# Altium schematic symbol library LimeMicroAltiumLib.SchLib: 659 symbols (part 17 of 22)
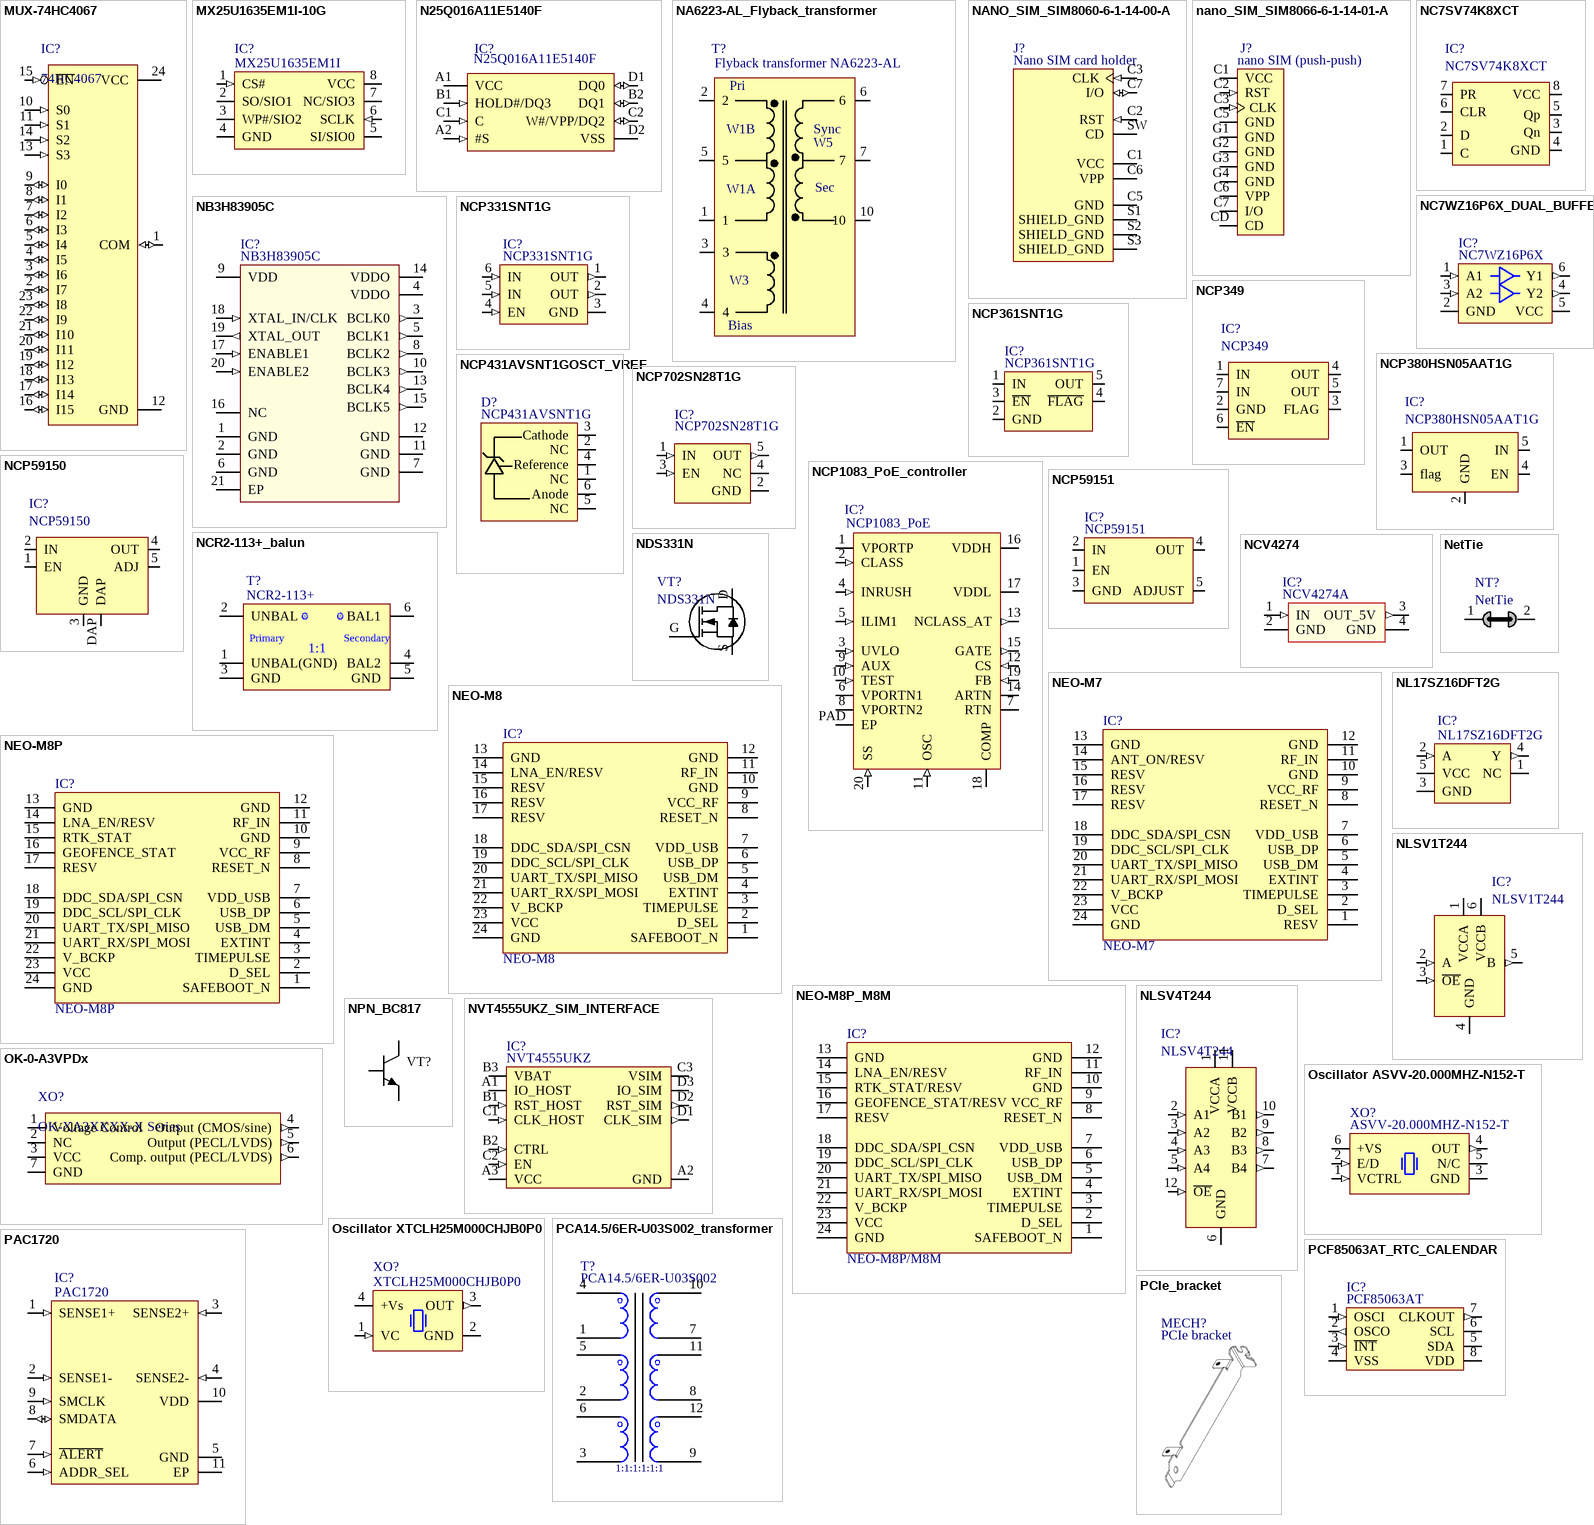
[diagram p94: symbols MUX-74HC4067 to PCIe_bracket]

## NCR2-113+_balun
designator T?, comment NCR2-113+
Manufacturer: Mini-Circuits; Part Description: RF Balun 3.5GHz ~ 11GHz 1:2 6-SMD, No Lead; Supplier 1: Digikey; Supplier Part Number 1: 3157-NCR2-113+CT-ND; Manufacturer Part Number 1: NCR2-113+; Stock 1: 9022; Pricing 1: 1=9,14, 20=8,79, 50=8,16, 100=7,52, 200=7,0375 (USD); ComponentLink1URL: https://datasheet.octopart.com/NCR2-113%2B-Mini-Circuits-datasheet-138896883.pdf?src-supplier=Upverter; ComponentLink1Description: https://datasheet.octopart.com/NCR2-113%2B-Mini-Circuits-datasheet-138896883.pdf?src-supplier=Upverter
footprint NCR2-113+_balun
pins: 1 UNBAL(GND), 2 UNBAL, 3 GND, 4 BAL2, 5 GND, 6 BAL1
text: Primary; Secondary; 1:1

## NCV4274
designator IC?, comment NCV4274A
Manufacturer Part Number 1: NCV4274ADT50RKG; Manufacturer: ON Semiconductor; Part Description: Linear Voltage Regulator IC Positive Fixed 1 Output 5V 400mA DPAK-3; Voltage - Output: 5V; Voltage - Dropout (Typical): 0.25V @ 250mA; Current - Output: 400mA; Regulator Topology: Positive Fixed; Voltage - Input: 5.5 V ~ 40 V; Number of Regulators: 1; Supplier 1: Digi-Key; RoHS: RoHS Compliant; Supplier Device Package: DPAK-3; Package / Case: TO-252-3, DPak (2 Leads + Tab), SC-63; Mounting Type: Surface Mount; Category: Integrated Circuits (ICs); Current - Limit (Min): 400mA; Operating Temperature: -40°C ~ 150°C; Packaging: Cut Tape (CT); Supplier Part Number 1: NCV4274ADT50RKGOSCT-ND
footprint D2PAK-3 (D-PAK/TO-263-3; 3 Leads (1 Cropped); Body 14.7 (inc. leads) x 10.2 mm (LxW max))
pins: 1 IN (in), 2 GND, 3 OUT_5V (out), 4 GND

## NDS331N
designator VT?
Gate Charge (Qg) @ Vgs: 5nC @ 4.5V; Power - Max: 460mW; Current - Continuous Drain (Id) @ 25°C: 1.3A (Ta); Input Capacitance (Ciss) @ Vds: 162pF @ 10V; FET Type: MOSFET N-Channel, Metal Oxide; Drain to Source Voltage (Vdss): 20V; FET Feature: Logic Level Gate; Supplier Device Package: 3-SSOT; Category: Discrete Semiconductor Products; Mounting Type: Surface Mount; Package / Case: TO-236-3, SC-59, SOT-23-3; Supplier: Digi-Key; Supplier Part Number 1: NDS331NCT-ND
footprint SOT23-3 (SOT23, 3 pin)
pins: D, G, S

## NEO-M7
designator IC?
GNSS engine for GPS/QZSS, GLONASS; Manufacturer: U-blox; DatasheetVersion: R07 11-Nov-2014; PackageDescription: NEO-7 series 12.2 x 16 x 2.4 mm; ComponentLink1URL: https://www.u-blox.com/en/product/neo-7-series; ComponentLink2Description: Datasheet; ComponentLink1Description: https://www.u-blox.com/en/product/neo-7-series
pins: 1 RESV, 2 D_SEL, 3 TIMEPULSE, 4 EXTINT, 5 USB_DM, 6 USB_DP, 7 VDD_USB, 8 RESET_N, 9 VCC_RF, 10 GND, 11 RF_IN, 12 GND, 13 GND, 14 ANT_ON/RESV, 15 RESV, 16 RESV, 17 RESV, 18 DDC_SDA/SPI_CSN, 19 DDC_SCL/SPI_CLK, 20 UART_TX/SPI_MISO, 21 UART_RX/SPI_MOSI, 22 V_BCKP, 23 VCC, 24 GND

## NEO-M8
designator IC?
GNSS engine for GPS/QZSS, GLONASS; Manufacturer: U-blox; DatasheetVersion: R07 11-Nov-2014; PackageDescription: NEO-7 series 12.2 x 16 x 2.4 mm; ComponentLink1URL: https://www.u-blox.com/en/product/neo-7-series; ComponentLink2Description: Datasheet; ComponentLink1Description: https://www.u-blox.com/en/product/neo-7-series
pins: 1 SAFEBOOT_N, 2 D_SEL, 3 TIMEPULSE, 4 EXTINT, 5 USB_DM, 6 USB_DP, 7 VDD_USB, 8 RESET_N, 9 VCC_RF, 10 GND, 11 RF_IN, 12 GND, 13 GND, 14 LNA_EN/RESV, 15 RESV, 16 RESV, 17 RESV, 18 DDC_SDA/SPI_CSN, 19 DDC_SCL/SPI_CLK, 20 UART_TX/SPI_MISO, 21 UART_RX/SPI_MOSI, 22 V_BCKP, 23 VCC, 24 GND

## NEO-M8P
designator IC?
GNSS engine for GPS/QZSS, GLONASS; Manufacturer: U-blox; DatasheetVersion: R07 11-Nov-2014; PackageDescription: NEO-7 series 12.2 x 16 x 2.4 mm; ComponentLink1URL: https://www.u-blox.com/en/product/neo-7-series; ComponentLink2Description: Datasheet; ComponentLink1Description: https://www.u-blox.com/en/product/neo-7-series
pins: 1 SAFEBOOT_N, 2 D_SEL, 3 TIMEPULSE, 4 EXTINT, 5 USB_DM, 6 USB_DP, 7 VDD_USB, 8 RESET_N, 9 VCC_RF, 10 GND, 11 RF_IN, 12 GND, 13 GND, 14 LNA_EN/RESV, 15 RTK_STAT, 16 GEOFENCE_STAT, 17 RESV, 18 DDC_SDA/SPI_CSN, 19 DDC_SCL/SPI_CLK, 20 UART_TX/SPI_MISO, 21 UART_RX/SPI_MOSI, 22 V_BCKP, 23 VCC, 24 GND

## NEO-M8P_M8M
designator IC?, comment NEO-M8P/M8M
GNSS engine for GPS/QZSS, GLONASS; Manufacturer: U-blox; DatasheetVersion: R07 11-Nov-2014; PackageDescription: NEO-7 series 12.2 x 16 x 2.4 mm; ComponentLink1URL: https://www.u-blox.com/en/product/neo-7-series; ComponentLink2Description: Datasheet; ComponentLink1Description: https://www.u-blox.com/en/product/neo-7-series
pins: 1 SAFEBOOT_N, 2 D_SEL, 3 TIMEPULSE, 4 EXTINT, 5 USB_DM, 6 USB_DP, 7 VDD_USB, 8 RESET_N, 9 VCC_RF, 10 GND, 11 RF_IN, 12 GND, 13 GND, 14 LNA_EN/RESV, 15 RTK_STAT/RESV, 16 GEOFENCE_STAT/RESV, 17 RESV, 18 DDC_SDA/SPI_CSN, 19 DDC_SCL/SPI_CLK, 20 UART_TX/SPI_MISO, 21 UART_RX/SPI_MOSI, 22 V_BCKP, 23 VCC, 24 GND

## NetTie
designator NT?  (net tie, no BOM)
pins: 1, 2

## NL17SZ16DFT2G
designator IC?
Manufacturer: ON Semiconductor; Part Description: Buffer, Non-Inverting 1 Element 1 Bit per Element Push-Pull Output SC-88A (SC-70-5/SOT-353); Logic Type: Buffer, Non-Inverting; Number of Bits per Element: 1; Output Type: Push-Pull; Current - Output High, Low: 32mA, 32mA; Voltage - Supply: 1.65 V ~ 5.5 V; Supplier 1: Digi-Key; Manufacturer Part Number 1: NL17SZ16DFT2G; RoHS: RoHS Compliant; Category: Integrated Circuits (ICs); Stock 1: 2190; Pricing 1: 1=0.34, 10=0.28, 100=0.1485, 500=0.09772, 1000=0.06645 (USD); Packaging: Cut Tape (CT); Part Status: Active; Input Type: -; Operating Temperature: -55°C ~ 125°C (TA); Mounting Type: Surface Mount; Package / Case: 5-TSSOP, SC-70-5, SOT-353; Supplier Device Package: SC-88A (SC-70-5/SOT-353); Base Part Number: 17SZ16; ComponentLink1URL: http://www.onsemi.com/pub/Collateral/NL17SZ16-D.PDF; ComponentLink1Description: http://www.onsemi.com/pub/Collateral/NL17SZ16-D.PDF; Supplier Part Number 1: NL17SZ16DFT2GOSCT-ND
footprint NL17SZ16_SOT23-5
pins: 1 NC, 2 A (in), 3 GND, 4 Y (out), 5 VCC (power)

## NLSV1T244
designator IC?
pins: 1 VCCA (power), 2 A (in), 3 ~{OE} (in), 4 GND (power), 5 B (out), 6 VCCB (power)

## NLSV4T244
designator IC?
Manufacturer: ON Semiconductor; Voltage - Supply: 0.9 V ~ 4.5 V; Logic Function: Translator, Unidirectional, 3-State; Supplier 1: Digi-Key; Category: Integrated Circuits (ICs); Package / Case: 12-UFQFN; Supplier Device Package: 12-UQFN (1.7x2); Supplier Part Number 1: NLSV4T244MUTAGOSDKR-ND
footprint NLSV4T244 (PQFN, 12-Leads, Body 1,70x2,00mm, Pitch 0,40mm, IPC Medium Density)
pins: 1 VCCA (power), 2 A1 (in), 3 A2 (in), 4 A3 (in), 5 A4 (in), 6 GND (power), 7 B4 (out), 8 B3 (out), 9 B2 (out), 10 B1 (out), 11 VCCB (power), 12 ~{OE} (in)

## NPN_BC817
designator VT?  (value not drawn)
Transistor SOT-23; Manufacturer Part Number 1: BC817; Manufacturer: MULTICOMP; Transistor Polarity: NPN; Collector Emitter Voltage V(br)ceo: 45; Transition Frequency ft: 170; Power Dissipation Pd: 300; DC Collector Current: 500; DC Current Gain hFE: 100; No. of Pins: 3; SVHC: No SVHC (16-Jun-2014); DC Current Gain Hfe Max: 600; Supplier 1: Farnell; RoHS: YES; Transistor Case Style: SOT-23; Operating Temperature Max: 150; MSL: -; Operating Temperature Min: -65; Operating Temperature Range: -65°C to +150; Supplier Part Number 1: 1798076
footprint SOT23-3_v2 (SOT23, 3 pin)
pins: 1 B, 2 E, 3 C

## NVT4555UKZ_SIM_INTERFACE
designator IC?, comment NVT4555UKZ
Part Description: SIM Card Interface 12-WLCSP (1.20x1.60); Manufacturer: NXP Semiconductors; Operating Supply Current: 5uA; Max Supply Voltage: 3.6V; Supplier 1: Digi-Key; Supplier Part Number 1: 568-11436-1-ND; Manufacturer Part Number 1: NVT4555UKZ; Stock 1: 2519; Pricing 1: 1=1,59000, 10=1,41900, 25=1,34720, 100=1,10660, 250=1,03440, 500=0,91410, 1000=0,76061 (USD); RoHS: Yes; Mount: Surface Mount; Number of Pins: 12; Weight: 0.002328oz; Min Operating Temperature: -40°C; Max Operating Temperature: 85°C; Packaging: Tape and Reel; Package Quantity: 3000; RoHS Compliant: Yes; ComponentLink1URL: http://www.mouser.com/ds/2/302/NVT4555-527699.pdf?src-supplier=Mouser; ComponentLink1Description: http://www.mouser.com/ds/2/302/NVT4555-527699.pdf?src-supplier=Mouser
footprint NVT4555UKZ_SIM_INTERFACE_WLCSP12 (Footprint not found)
pins: A1 IO_HOST (io), A2 GND, A3 VCC (power), B1 RST_HOST (in), B2 CTRL (in), B3 VBAT (power), C1 CLK_HOST (in), C2 EN (in), C3 VSIM (power), D1 CLK_SIM (out), D2 RST_SIM (out), D3 IO_SIM (io)

## OK-0-A3VPDx
designator XO?, comment OK-XA3XXXX-X Series
Manufacturer: NEL Frequency Control; Part Description: Up to 1.0 GHz  Ultra High Frequency Range Excellent Temperature Stability  CMOS PECL/LVPECL LVDS Sine  3.3V 5V; Supplier Part Number 1: *; Supplier 1: NEL Frequency Control
footprint OK-0-A3VPDx
pins: 1 Voltage Control, 2 NC, 3 VCC (power), 4 Output (CMOS/sine) (out), 5 Output (PECL/LVDS) (out), 6 Comp. output (PECL/LVDS) (out), 7 GND

## Oscillator ASVV-20.000MHZ-N152-T
designator XO?, comment ASVV-20.000MHZ-N152-T
Manufacturer: Abracon; Part Description: XTAL OSC VCXO 20.0000MHZ CMOS; Frequency: 20MHz; Load Capacitance: 30pF; Operating Supply Voltage: 3.3V; Max Supply Voltage: 3.465V; Min Supply Voltage: 3.135V; Max Supply Current: 15mA; Frequency Stability: 50ppm; Max Duty Cycle: 60%; Supplier 1: Digi-Key; Supplier Part Number 1: 535-9344-1-ND; Manufacturer Part Number 1: ASVV-20.000MHZ-N152-T; Stock 1: 1109; Pricing 1: 1=4,74000, 10=4,49300, 50=4,24320, 100=3,99360, 500=3,86880 (USD); RoHS: Yes; Mount: Surface Mount; Case/Package: SMD/SMT; Number of Pins: 6; Min Operating Temperature: 0°C; Max Operating Temperature: 70°C; Packaging: Tape and Reel; Package Quantity: 1000; Termination: SMD/SMT; Series: ASVV; Length: 0.276inch; Width: 0.197inch; Height: 0.079inch; Depth: 5mm; Radiation Hardening: No; Lead Free: Lead Free; RoHS Compliant: No; ComponentLink1URL: https://datasheet.ciiva.com/867/asvv-867044.pdf?src-supplier=Digi-Key; ComponentLink1Description: https://datasheet.ciiva.com/867/asvv-867044.pdf?src-supplier=Digi-Key; ComponentLink2URL: https://datasheet.ciiva.com/867/asvv-867045.pdf?src-supplier=Digi-Key; ComponentLink2Description: https://datasheet.ciiva.com/867/asvv-867045.pdf?src-supplier=Digi-Key; ComponentLink3URL: https://datasheet.ciiva.com/867/asvv-867046.pdf?src-supplier=Digi-Key; ComponentLink3Description: https://datasheet.ciiva.com/867/asvv-867046.pdf?src-supplier=Digi-Key
footprint XO_ASVV-20.000MHZ-N152-T
pins: 1 VCTRL (in), 2 E/D (in), 3 GND, 4 OUT (out), 5 N/C, 6 +VS (power)

## Oscillator XTCLH25M000CHJB0P0
designator XO?, comment XTCLH25M000CHJB0P0
Manufacturer: Murata; Part Description: XTAL OSC VCTCXO 25.0000MHZ CMOS; Supplier 1: Digi-Key; Supplier Part Number 1: 490-XTCLH25M000CHJB0P0CT-ND; Manufacturer Part Number 1: XTCLH25M000CHJB0P0; Stock 1: 1960; Pricing 1: 1=10,11000, 10=9,48000, 50=9,16400, 100=8,84800, 500=8,53200, 1000=7,90000 (USD)
footprint XO_XTCLH25M000CHJB0P0 (SMD Oscillator, Corner Convave, 4 pins, 5x3.2mm)
pins: 1 VC (in), 2 GND, 3 OUT (out), 4 +Vs (power)

## PAC1720
designator IC?
Part Description: Current Sense Regulator High-Side 10-DFN (3x3); Manufacturer Part Number 1: PAC1720-1-AIA-TR; Manufacturer: Microchip Technology; Voltage - Input: 0 V ~ 40 V; Sensing Method: High-Side; Function: Current Sense; Accuracy: ±1%; Supplier 1: Digi-Key; Category: Integrated Circuits (ICs); Supplier Device Package: 10-DFN (3x3); Packaging: Cut Tape (CT); Part Status: Active; Current - Output: -; Package / Case: 10-VFDFN Exposed Pad; Operating Temperature: -40°C ~ 85°C; Mounting Type: Surface Mount; RoHS: RoHS Compliant; Supplier Part Number 1: PAC1720-1-AIA-CT-ND
footprint PAC1720_VDFN (10-Lead Very Thin Plastic Dual Flat, No Lead Package (9Q) - 3x3 mm Body [VDFN])
pins: 1 SENSE1+ (in), 2 SENSE1- (in), 3 SENSE2+ (in), 4 SENSE2- (in), 5 GND, 6 ADDR_SEL (in), 7 ~{ALERT} (in), 8 SMDATA (io), 9 SMCLK (in), 10 VDD (power), 11 EP

## PCA14.5/6ER-U03S002_transformer
designator T?, comment PCA14.5/6ER-U03S002
Part Description: For  SMPS Transformer  Isolation  Surface Mount; Manufacturer: TDK Corporation; Supplier Part Number 1: 445-1678-1-ND; Manufacturer Part Number 1: PCA14.5/6ER-U03S002; Supplier 1: Digi-Key
pins: 1, 2, 3, 4, 5, 6, 7, 8, 9, 10, 11, 12
text: 1:1:1:1:1:1

## PCF85063AT_RTC_CALENDAR
designator IC?, comment PCF85063AT
Part Description: Real Time Clock (RTC) IC Clock/Calendar - I²C, 2-Wire Serial 8-SOIC (0.154", 3.90mm Width)
footprint PCF85063AT_RTC_SOIC-8
pins: 1 OSCI (in), 2 OSCO (out), 3 ~{INT} (in), 4 VSS, 5 SDA (io), 6 SCL (io), 7 CLKOUT (out), 8 VDD (power)

## PCIe_bracket
designator MECH?, comment PCIe bracket
Manufacturer: Keystone Electronics; Manufacturer Part Number 1: 9203; Part Description: BRACKET, COMPUTER, PCI,LENGTH 120mm, HOLE TO HOLE DISTANCE 85.4mm; Card Type: PCI; Style: Blank; Supplier 1: Digi-Key; RoHS: RoHS Compliant; Category: Computers, Office - Components, Accessories; Stock 1: 5093; Pricing 1: 1=3.31, 10=2.083, 50=1.87, 100=1.785, 250=1.615, 1000=1.44, 2500=1.28001, 5000=1.1305 (USD); Part Status: Active; Material: Steel, Nickel Plated; ComponentLink1URL: http://www.keyelco.com/product-pdf.cfm?p=2468; ComponentLink1Description: http://www.keyelco.com/product-pdf.cfm?p=2468; Supplier Part Number 1: 36-9203-ND
footprint PCIe_bracket

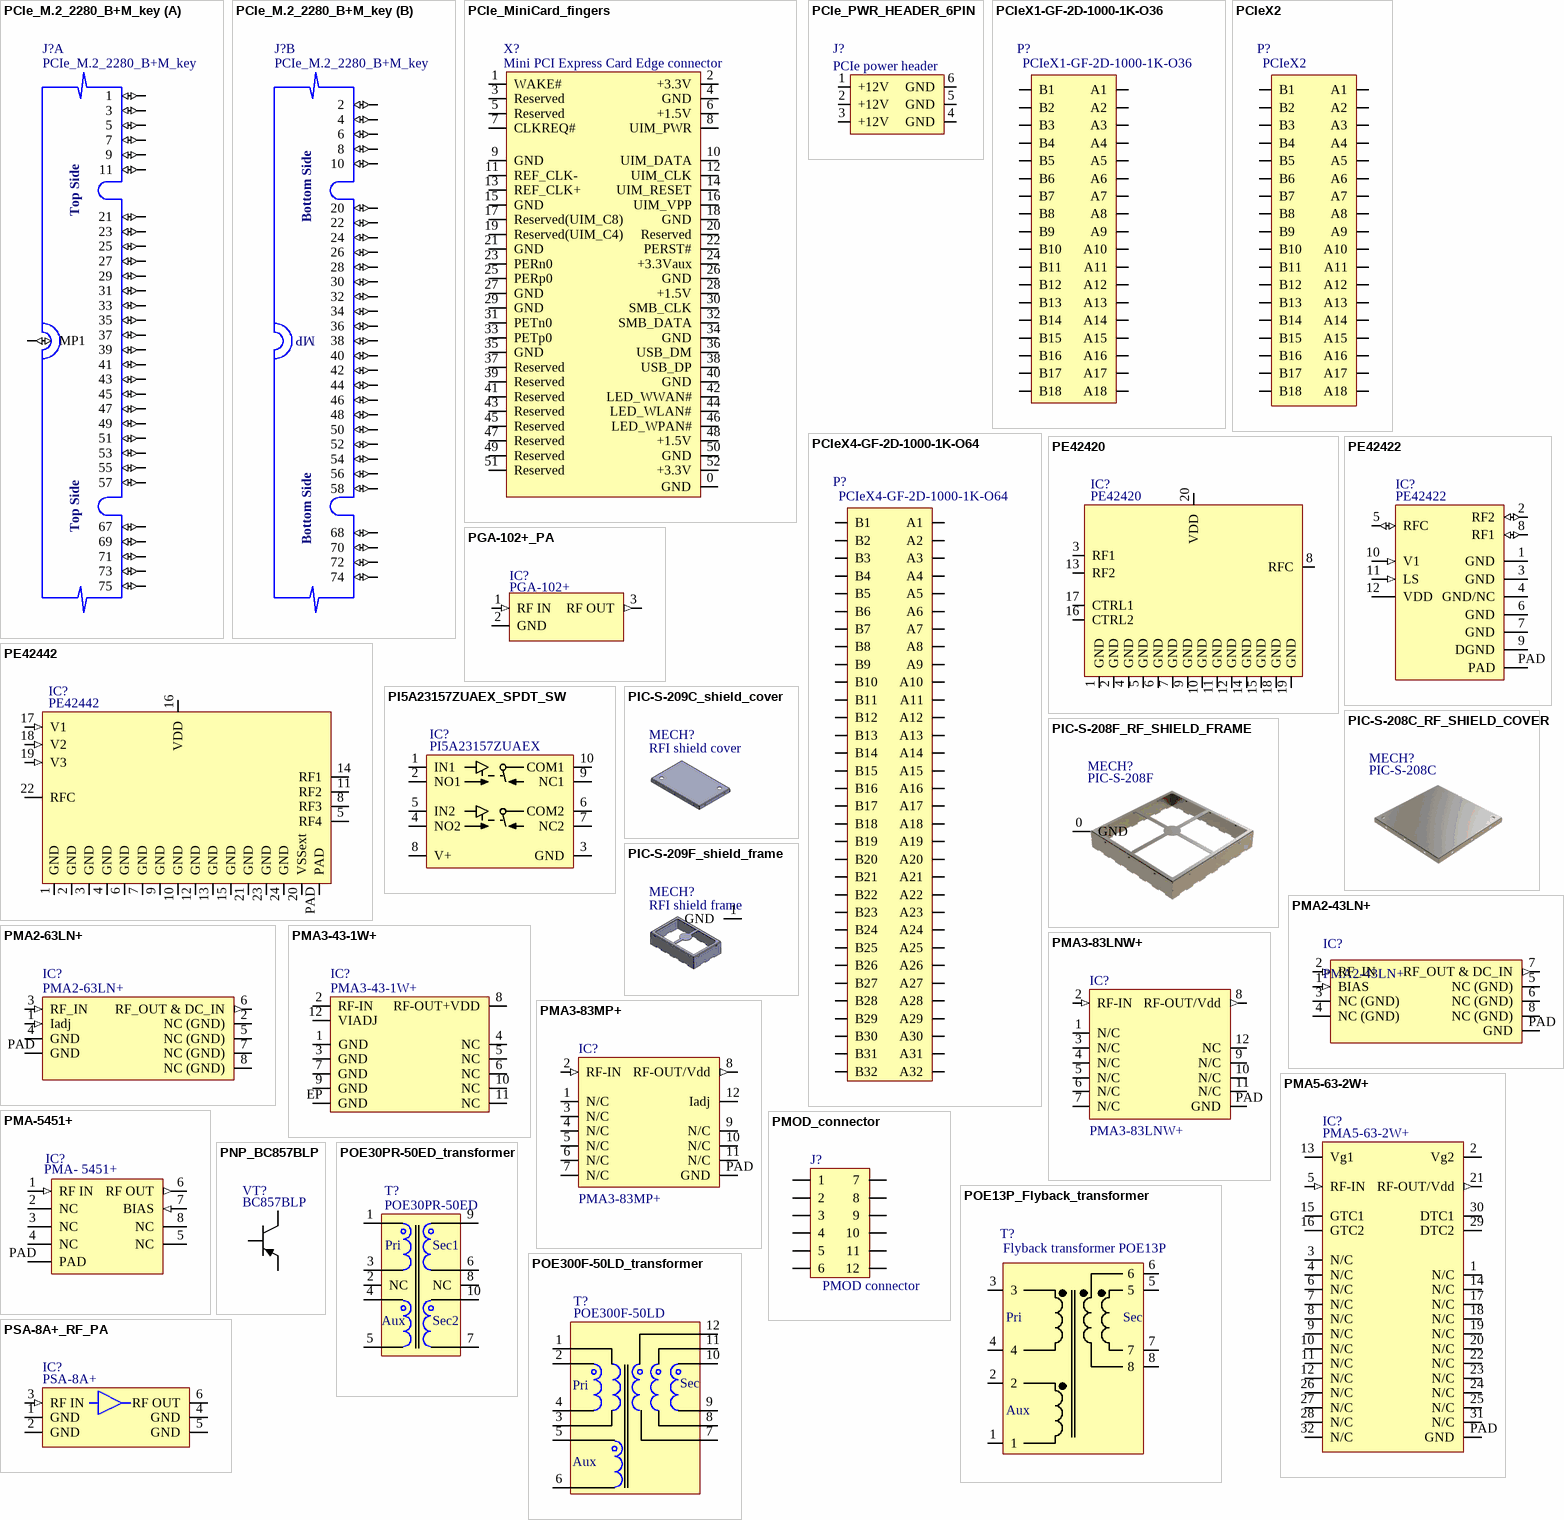
[diagram p63: symbols PCIe_M.2_2280_B+M_key to PSA-8A+_RF_PA]

## PCIe_M.2_2280_B+M_key
designator J?  (no BOM)
footprint PCIe_M.2_2280_B+M_key
part A pins: MOUNTING-HOLE MP1 (io), P1 1 (io), P3 3 (io), P5 5 (io), P7 7 (io), P9 9 (io), P11 11 (io), P21 21 (io), P23 23 (io), P25 25 (io), P27 27 (io), P29 29 (io), P31 31 (io), P33 33 (io), P35 35 (io), P37 37 (io), P39 39 (io), P41 41 (io), P43 43 (io), P45 45 (io), P47 47 (io), P49 49 (io), P51 51 (io), P53 53 (io), P55 55 (io), P57 57 (io), P67 67 (io), P69 69 (io), P71 71 (io), P73 73 (io), P75 75 (io)
part B pins: P2 2 (io), P4 4 (io), P6 6 (io), P8 8 (io), P10 10 (io), P20 20 (io), P22 22 (io), P24 24 (io), P26 26 (io), P28 28 (io), P30 30 (io), P32 32 (io), P34 34 (io), P36 36 (io), P38 38 (io), P40 40 (io), P42 42 (io), P44 44 (io), P46 46 (io), P48 48 (io), P50 50 (io), P52 52 (io), P54 54 (io), P56 56 (io), P58 58 (io), P68 68 (io), P70 70 (io), P72 72 (io), P74 74 (io)
part A text: Top Side
part B text: Bottom Side; MP

## PCIe_MiniCard_fingers
designator X?, comment Mini PCI Express Card Edge connector  (no BOM)
PCIe MiniCard full or half size
footprint PCIe_MiniCard (Footprint not found)
pins: 0 GND, 1 WAKE#, 2 +3.3V, 3 Reserved, 4 GND, 5 Reserved, 6 +1.5V, 7 CLKREQ#, 8 UIM_PWR, 9 GND, 10 UIM_DATA, 11 REF_CLK-, 12 UIM_CLK, 13 REF_CLK+, 14 UIM_RESET, 15 GND, 16 UIM_VPP, 17 Reserved(UIM_C8), 18 GND, 19 Reserved(UIM_C4), 20 Reserved, 21 GND, 22 PERST#, 23 PERn0, 24 +3.3Vaux, 25 PERp0, 26 GND, 27 GND, 28 +1.5V, 29 GND, 30 SMB_CLK, 31 PETn0, 32 SMB_DATA, 33 PETp0, 34 GND, 35 GND, 36 USB_DM, 37 Reserved, 38 USB_DP, 39 Reserved, 40 GND, 41 Reserved, 42 LED_WWAN#, 43 Reserved, 44 LED_WLAN#, 45 Reserved, 46 LED_WPAN#, 47 Reserved, 48 +1.5V, 49 Reserved, 50 GND, 51 Reserved, 52 +3.3V

## PCIe_PWR_HEADER_6PIN
designator J?, comment PCIe power header
Manufacturer Part Number 1: 0455580003; Manufacturer: Molex Connector Corporation; Number of Positions Loaded: All; Pitch: 0.165" (4.20mm); Number of Positions: 6; Connector Type: Header, Shrouded; Supplier 1: Digi-Key; Contact Finish: Tin; Contact Finish Thickness: 100µin (2.54µm); Fastening Type: Locking Ramp; RoHS: RoHS Compliant; Contact Type: Male Pin; Features: Board Lock; Color: Black; Packaging: Tray; Mounting Type: Through Hole, Right Angle; Category: Connectors, Interconnects; Contact Mating Length: -; Row Spacing: 0.165" (4.20mm); Termination: Solder; Number of Rows: 2; Supplier Part Number 1: WM10869-ND
footprint PCIe_POWER_HEADER_6PIN
pins: 1 +12V, 2 +12V, 3 +12V, 4 GND, 5 GND, 6 GND

## PCIeX1-GF-2D-1000-1K-O36
designator P?  (no BOM)
footprint PCIeX1-GF-2D-1000-1K-O36
pins: A1, A2, A3, A4, A5, A6, A7, A8, A9, A10, A11, A12, A13, A14, A15, A16, A17, A18, B1, B2, B3, B4, B5, B6, B7, B8, B9, B10, B11, B12, B13, B14, B15, B16, B17, B18

## PCIeX2
designator P?  (no BOM)
footprint PCIeX2
pins: A1, A2, A3, A4, A5, A6, A7, A8, A9, A10, A11, A12, A13, A14, A15, A16, A17, A18, B1, B2, B3, B4, B5, B6, B7, B8, B9, B10, B11, B12, B13, B14, B15, B16, B17, B18

## PCIeX4-GF-2D-1000-1K-O64
designator P?  (no BOM)
footprint PCIeX4-GF-2D-1000-1K-O64
pins: A1, A2, A3, A4, A5, A6, A7, A8, A9, A10, A11, A12, A13, A14, A15, A16, A17, A18, A19, A20, A21, A22, A23, A24, A25, A26, A27, A28, A29, A30, A31, A32, B1, B2, B3, B4, B5, B6, B7, B8, B9, B10, B11, B12, B13, B14, B15, B16, B17, B18, B19, B20, B21, B22, B23, B24, B25, B26, B27, B28, B29, B30, B31, B32

## PE42420
designator IC?
UltraCMOS SPDT RF Switch  100 – 6000 MHz; Manufacturer Part Number: PE42420LGBB-Z; Manufacturer: Peregrine Semiconductor; Topology: Absorptive; Impedance: 50 Ohm; Frequency - Upper: 6GHz; RF Type: General Purpose; Voltage - Supply: 2.7 V ~ 5.5 V; Frequency - Lower: 100MHz; Insertion Loss @ Frequency: 1.6dB @ 6GHz; Isolation @ Frequency: 50dB @ 6GHz (typ); P1dB: 33dBm (min) IP1dB; IIP3: 65dBm (typ); Supplier 1: Digi-Key; RoHS: RoHS Compliant; Category: RF/IF and RFID; Circuit: SPDT; Supplier Device Package: 20-LGA (4x4); Operating Temperature: -40°C ~ 85°C; Features: -; Packaging: Cut Tape (CT); Package / Case: 20-TFLGA Exposed Pad; Supplier Part Number 1: 1046-1069-1-ND
footprint PE42420_20QFN (QFN, 20-Leads, Body 4,00x4,00mm, Pitch 0,50mm, Thermal Pad 2,70x2,70mm, IPC Medium Density)
pins: 1 GND, 2 GND, 3 RF1 (io), 4 GND, 5 GND, 6 GND, 7 GND, 8 RFC (io), 9 GND, 10 GND, 11 GND, 12 GND, 13 RF2 (io), 14 GND, 15 GND, 16 CTRL2 (in), 17 CTRL1 (in), 18 GND, 19 GND, 20 VDD (power)

## PE42422
designator IC?
Manufacturer: Peregrine Semiconductor; Manufacturer Part Number 1: PE42422MLAA-Z; Part Description: IC RF SWITCH SPDT 50 OHM 12QFN; Frequency - Lower: 100MHz; Isolation @ Frequency: 17dB @ 6GHz (typ); Insertion Loss @ Frequency: 0.9dB @ 6GHz; IIP3: 70dBm (typ); Topology: Reflective; Circuit: SPDT; Impedance: 50 Ohm; Voltage - Supply: 2.3 V ~ 5.5 V; RF Type: General Purpose; Supplier 1: Digi-Key; RoHS: RoHS Compliant; Category: RF/IF and RFID; Stock 1: 21993; Pricing 1: 1=1.32, 101=0.92 (USD); Packaging: Cut Tape (CT); Part Status: Active; P1dB: -; Features: -; Operating Temperature: -40°C ~ 85°C; Package / Case: 12-UFQFN Exposed Pad; Supplier Device Package: 12-QFN (2x2); ComponentLink1URL: http://www.psemi.com/pdf/datasheets/pe42422ds.pdf; ComponentLink1Description: http://www.psemi.com/pdf/datasheets/pe42422ds.pdf; Supplier Part Number 1: 1046-1062-1-ND
footprint PE42422_QFN12 (Footprint not found)
pins: 1 GND, 2 RF2 (io), 3 GND, 4 GND/NC, 5 RFC (io), 6 GND, 7 GND, 8 RF1 (io), 9 DGND, 10 V1 (in), 11 LS (in), 12 VDD (power), PAD

## PE42442
designator IC?
UltraCMOS SPDT RF Switch  100 – 6000 MHz; Manufacturer Part Number 1: PE42442A-Z; Manufacturer: Peregrine Semiconductor; Topology: Absorptive; Insertion Loss @ Frequency: 1.1dB @ 900MHz; IIP3: 58dBm (typ); Isolation @ Frequency: 61dB @ 900MHz (typ); RF Type: 3G/4G; Voltage - Supply: 3.3V; Impedance: 50 Ohm; Circuit: SP4T; Frequency - Lower: 30MHz; Frequency - Upper: 6GHz; Supplier 1: Digi-Key; Supplier Device Package: 24-QFN (4x4); Package / Case: 24-WFQFN Exposed Pad; Operating Temperature: -40°C ~ 105°C; Features: -; P1dB: -; Category: RF/IF and RFID; Packaging: Cut Tape (CT); RoHS: RoHS Compliant; Supplier Part Number 1: 1046-1096-1-ND
footprint PE42442_24QFN (QFN, 24-Leads, Body 4,00x4,00mm, Pitch 0,50mm, thermal pad, IPC Medium Density)
pins: 1 GND, 2 GND, 3 GND, 4 GND, 5 RF4 (io), 6 GND, 7 GND, 8 RF3 (io), 9 GND, 10 GND, 11 RF2 (io), 12 GND, 13 GND, 14 RF1 (io), 15 GND, 16 VDD (power), 17 V1 (in), 18 V2 (in), 19 V3 (in), 20 VSSext, 21 GND, 22 RFC (io), 23 GND, 24 GND, PAD

## PGA-102+_PA
designator IC?, comment PGA-102+
Part Description: *
pins: 1 RF IN (in), 2 GND, 3 RF OUT (out)

## PI5A23157ZUAEX_SPDT_SW
designator IC?, comment PI5A23157ZUAEX
Manufacturer: Diodes; Part Description: 2 Circuit IC Switch 2:1 15Ohm 10-UQFN (1.5x2); Supplier 1: Digi-Key; Supplier Part Number 1: 31-PI5A23157ZUAEXCT-ND; Manufacturer Part Number 1: PI5A23157ZUAEX; Stock 1: 2985; Pricing 1: 1=0,87000, 10=0,77000, 25=0,72280, 100=0,59000, 250=0,54800, 500=0,46640, 1000=0,37312 (USD); RoHS: No
footprint PI5A23157ZUAEX_SPDT_SW_10UQFN
pins: 1 IN1, 2 NO1, 3 GND, 4 NO2, 5 IN2, 6 COM2, 7 NC2, 8 V+, 9 NC1, 10 COM1

## PIC-S-208C_RF_SHIELD_COVER
designator MECH?, comment PIC-S-208C
Part Description: RF Shield Cover 1.559" (39.60mm) X 1.559" (39.60mm) Vent Holes in Pattern Snap Fit; Manufacturer: 3G Shielding Specialties LP; Manufacturer Part Number 1: PIC-S-208C; Supplier Part Number 1: 2276-PIC-S-208C-ND; Supplier 1: Digi-Key
footprint PIC-S-208C_RF_SHIELD_COVER (Full footprint)

## PIC-S-208F_RF_SHIELD_FRAME
designator MECH?, comment PIC-S-208F
Part Description: RF Shield Frame 1.559" (39.60mm) X 1.559" (39.60mm) Solder; Manufacturer: 3G Shielding Specialties LP; Manufacturer Part Number 1: PIC-S-208F; Supplier Part Number 1: 2276-PIC-S-208FTR-ND; Supplier 1: Digi-Key
footprint PIC-S-208F_RF_SHIELD_FRAME_r0 (Full footprint)
pins: 0 GND

## PIC-S-209C_shield_cover
designator MECH?, comment RFI shield cover  (mechanical)
Part Description: RF Shield Cover 0.728" (18.50mm) X 1.156" (29.36mm) Vent Holes in Pattern Snap Fit; Manufacturer Part Number: PIC-S-209C; Manufacturer: 3G Shielding Specialties LP; Supplier Part Number 1: 2276-PIC-S-209C-ND; Supplier 1: Digi-Key

## PIC-S-209F_shield_frame
designator MECH?, comment RFI shield frame
Part Description: RF Shield Frame 0.728" (18.50mm) X 1.156" (29.36mm) - Solder; Manufacturer Part Number: PIC-S-209F; Manufacturer: 3G Shielding Specialties LP; Supplier Part Number 1: 2276-PIC-S-209FTR-ND; Supplier 1: Digi-Key
footprint SHIELD_PIC-S-209F_v2
pins: 1 GND

## PMA2-43LN+
designator IC?
Part Description: Monolithic Amplifier, 1.1 to 4.0 GHz, 50R, , 2 x 2 x 1mm; Manufacturer: Mini-Circuits; Supplier 1: Mini-Circuits; Supplier Part Number 1: PMA2-43LN+; Manufacturer Part Number 1: PMA2-43LN+
footprint PMA2-43LN+_QFN8_2x2mm
pins: 1 BIAS (in), 2 RF_IN (in), 3 NC (GND), 4 NC (GND), 5 NC (GND), 6 NC (GND), 7 RF_OUT & DC_IN (out), 8 NC (GND), PAD GND

## PMA2-63LN+
designator IC?
Part Description: SMT MMIC, Low Noise, Linear Amplifier, 400 MHz to 6000 MHz, 50Ω, 2x2 mm QFN Style Package; Manufacturer: Mini-Circuits; Supplier 1: Mini-Circuits; Supplier Part Number 1: PMA2-63LN+; Manufacturer Part Number 1: PMA2-63LN+
footprint PMA2-63LN+_QFN8_2x2mm
pins: 1 Iadj (in), 2 NC (GND), 3 RF_IN (in), 4 GND, 5 NC (GND), 6 RF_OUT & DC_IN (out), 7 NC (GND), 8 NC (GND), PAD GND

## PMA3-43-1W+
designator IC?
Part Description: RF Amplifier IC 5G, Radar, VSAT 10MHz ~ 4GHz 12-MCLP (3x3); Manufacturer: Mini-Circuits; Supplier 1: DigiKey; Supplier Part Number 1: 3157-PMA3-43-1W+DKR-ND; Manufacturer Part Number 1: PMA3-43-1W+; Stock 1: 0; Pricing 1: 1=21,55, 50=19,392, 100=17,4601, 200=16,23605 (USD); Lifecycle Status: Production
footprint PMA3-43-1W+_QFN12
pins: 1 GND, 2 RF-IN, 3 GND, 4 NC, 5 NC, 6 NC, 7 GND, 8 RF-OUT+VDD, 9 GND, 10 NC, 11 NC, 12 VIADJ, EP GND

## PMA3-83LNW+
designator IC?
Manufacturer: Mini-Circuits; Part Description: Wide Band Low Power Amplifier, 400MHz Min, 8000MHz Max, 1 Func; Supplier 1: Digikey; Manufacturer Part Number 1: PMA3-83LNW+; Stock 1: 1403; Pricing 1: 1=18,95, 20=17,184, 50=14,148, 100=12,624, 200=11,664, 500=10,69204 (USD); RoHS: Yes; Supplier Part Number 1: 3157-PMA3-83LNW+CT-ND
footprint PMA3-83LNW+
pins: 1 N/C, 2 RF-IN (in), 3 N/C, 4 N/C, 5 N/C, 6 N/C, 7 N/C, 8 RF-OUT/Vdd (out), 9 N/C, 10 N/C, 11 N/C, 12 NC, PAD GND

## PMA3-83MP+
designator IC?
Manufacturer: Mini-Circuits; Part Description: RF Amplifier SMT Gain Block, 400 - 8000 MHz, 50 Ohm; Supplier 1: Digikey; Supplier Part Number 1: 3157-PMA3-83MP+CT-ND; Manufacturer Part Number 1: PMA3-83MP+; Stock 1: 3273; Pricing 1: 1=13,61, 20=12,348, 50=11,664, 100=10,968, 200=10,08005, 500=9,8379 (USD); RoHS: No
footprint PMA3-83MP+
pins: 1 N/C, 2 RF-IN (in), 3 N/C, 4 N/C, 5 N/C, 6 N/C, 7 N/C, 8 RF-OUT/Vdd (out), 9 N/C, 10 N/C, 11 N/C, 12 Iadj, PAD GND

## PMA5-63-2W+
designator IC?
Manufacturer: Mini-Circuits; Part Description: RF Amplifier SMT MMIC, High Power Amplifier, 10 MHz to 6 GHz, 50ohm; Supplier 1: Mouser; Manufacturer Part Number 1: PMA5-63-2W+; Stock 1: 148; Pricing 1: 1=111,72, 10=100,55, 50=81,44, 100=67,43, 1000=67,43, 10000=67,43 (USD); RoHS: No; Supplier Part Number 1: 139-PMA5-63-2W+
footprint PMA5-63-2W+
pins: 1 N/C, 2 Vg2, 3 N/C, 4 N/C, 5 RF-IN (in), 6 N/C, 7 N/C, 8 N/C, 9 N/C, 10 N/C, 11 N/C, 12 N/C, 13 Vg1, 14 N/C, 15 GTC1, 16 GTC2, 17 N/C, 18 N/C, 19 N/C, 20 N/C, 21 RF-OUT/Vdd (out), 22 N/C, 23 N/C, 24 N/C, 25 N/C, 26 N/C, 27 N/C, 28 N/C, 29 DTC2, 30 DTC1, 31 N/C, 32 N/C, PAD GND

## PMA-5451+
designator IC?, comment PMA- 5451+
Part Description: Wideband, up to 6 GHz; Ultra Low Noise Figure, 0.6 dB; High IP3/Low Current, 30mA Monolithic Amplifier. 3x3mm MCLP; Manufacturer: Mini-Circuits; Manufacturer Part Number 1: PMA-5451+; Supplier Part Number 1: PMA-5451+; Supplier 1: Mini-Circuits
footprint PMA-5451+_MCLP8
pins: 1 RF IN (in), 2 NC, 3 NC, 4 NC, 5 NC, 6 RF OUT (out), 7 BIAS (in), 8 NC, PAD

## PMOD_connector
designator J?, comment PMOD connector
Header, 4-Pin, Dual row; Manufacturer Part Number: PPPC062LJBN-RC; Manufacturer: Sullins Connector Solutions; Row Spacing: 0.100" (2.54mm); Number of Positions Loaded: All; Number of Positions: 12; Supplier 1: Digi-Key; Mounting Type: Through Hole, Right Angle; Contact Finish: Gold; Features: -; Category: Connectors, Interconnects; Packaging: Bulk; RoHS: RoHS Compliant; Number of Rows: 2; Contact Finish Thickness: Flash; Pitch: 0.100" (2.54mm); Termination: Solder; Contact Type: Female Socket; Color: Black; Connector Type: Header; Fastening Type: -; Supplier Part Number 1: S5559-ND
footprint PMODconn_right_angle_TH (JTAG)
pins: 1, 2, 3, 4, 5, 6, 7, 8, 9, 10, 11, 12

## PNP_BC857BLP
designator VT?, comment BC857BLP
Manufacturer: Diodes Incorporated; Manufacturer Part Number 1: BC857BLP-7B; Part Description: Bipolar (BJT) Transistor PNP 45V 100mA 100MHz 250mW Surface Mount 3-DFN1006 (1.0x0.6); Transistor Type: PNP; Current - Collector (Ic) (Max): 100mA; Voltage - Collector Emitter Breakdown (Max): 45V; Vce Saturation (Max) @ Ib, Ic: 650mV @ 5mA, 100mA; Current - Collector Cutoff (Max): 15nA (ICBO); DC Current Gain (hFE) (Min) @ Ic, Vce: 220 @ 2mA, 5V; Power - Max: 250mW; Frequency - Transition: 100MHz; Supplier 1: Digi-Key; RoHS: RoHS Compliant; Category: Discrete Semiconductor Products; Stock 1: 16398; Pricing 1: 1=0.39, 10=0.32, 100=0.2175, 500=0.16316, 1000=0.12236 (USD); Packaging: Cut Tape (CT); Part Status: Active; Operating Temperature: -55°C ~ 150°C (TJ); Mounting Type: Surface Mount; Package / Case: 3-UFDFN; Supplier Device Package: 3-DFN1006 (1.0x0.6); ComponentLink1URL: https://www.diodes.com/assets/Datasheets/ds30526.pdf; ComponentLink1Description: https://www.diodes.com/assets/Datasheets/ds30526.pdf; Supplier Part Number 1: BC857BLP-7BDICT-ND
footprint BC857BLP
pins: B, C, E

## POE13P_Flyback_transformer
designator T?, comment Flyback transformer POE13P
Part Description: Audio Transformers / Signal Transformers POE13P Flyback PoE 127uH 5.0 V 2.6 A; Manufacturer: Coilcraft; Manufacturer Part Number 1: POE13P-50LB; Turns Ratio: 1:0.25; Inductance: 127uh; DC Resistance (DCR): 222mR; Isolation Voltage: 1.5kV; Supplier 1: Mouser; Stock 1: 99; Pricing 1: 1=3.92, 10=3.53, 50=3.14, 100=2.75, 1000=2.11, 10000=2.11 (USD); Case/Package: 127; Packaging: Cut Tape; Package Quantity: 1; Length: 13.46mm; Height: 12.7mm; Width: 13mm; Lead Free: Contains Lead; REACH SVHC: No SVHC; Supplier Part Number 1: 994-POE13P-50LB
footprint PoE13P-50L_Flyback_transformer
pins: 1, 2, 3, 4, 5, 6, 7, 8
text: Pri; Sec; Aux

## POE30PR-50ED_transformer
designator T?, comment POE30PR-50ED
Part Description: Audio Transformers / Signal Transformers Flyback PoE 30W 48uH 5V 3.6A; Manufacturer: Coilcraft; Supplier 1: Mouser; Supplier Part Number 1: 994-POE30PR-50ED; Manufacturer Part Number 1: POE30PR-50ED; Stock 1: 0; Pricing 1: 1=5,14000, 10=4,63000, 50=4,11000, 100=3,60000, 1000=2,77000, 10000=2,77000 (USD); RoHS: Yes
footprint POE30PR50ED_TRANSFORMER
pins: 1, 2 NC, 3, 4, 5, 6, 7, 8 NC, 9, 10
text: Pri; Sec1; Aux; Sec2

## POE300F-50LD_transformer
designator T?, comment POE300F-50LD
Part Description: Audio Transformers / Signal Transformers POE300F Flyback PoE+ 30uH 5.0 V 6 A; Manufacturer: Coilcraft; Supplier 1: Mouser; Supplier Part Number 1: 994-POE300F-50LD; Manufacturer Part Number 1: POE300F-50LD; Stock 1: 160; Pricing 1: 1=6,63000, 10=5,98000, 50=5,31000, 100=4,65000, 1000=3,57000, 10000=3,57000 (USD); RoHS: Yes; Packaging: Tape and Reel; Package Quantity: 175; Length: 21mm; Width: 20.57mm; Height: 11.43mm; Lead Free: Contains Lead; RoHS Compliant: Yes; ComponentLink1URL: http://www.mouser.com/ds/2/597/poe300-463486.pdf?src-supplier=Mouser; ComponentLink1Description: http://www.mouser.com/ds/2/597/poe300-463486.pdf?src-supplier=Mouser
footprint POE300F50LD_TRANSFORMER
pins: 1, 2, 3, 4, 5, 6, 7, 8, 9, 10, 11, 12
text: Sec; Pri; Aux

## PSA-8A+_RF_PA
designator IC?, comment PSA-8A+
Part Description: RF Amplifier IC Cellular, PCS 0Hz ~ 4GHz SC-70-6; Manufacturer: Mini-Circuits; Gain: 17.5dB; Impedance: 50Ω; Max Frequency: 4GHz; Max Supply Current: 39mA; Number of Circuits: 1; ComponentLink1URL: https://datasheet.octopart.com:443/MASWSS0179TR-3000-MACOM-datasheet-180618267.pdf?src-supplier=IHS; ComponentLink1Description: https://datasheet.octopart.com:443/MASWSS0179TR-3000-MACOM-datasheet-180618267.pdf?src-supplier=IHS; ComponentLink2URL: https://datasheet.octopart.com:443/MASWSS0179TR-3000-MA-COM-datasheet-181463086.pdf?src-supplier=IHS; ComponentLink2Description: https://datasheet.octopart.com:443/MASWSS0179TR-3000-MA-COM-datasheet-181463086.pdf?src-supplier=IHS; ComponentLink3URL: https://datasheet.octopart.com:443/MASWSS0179TR-3000-MA-COM-datasheet-180616163.pdf?src-supplier=IHS; ComponentLink3Description: https://datasheet.octopart.com:443/MASWSS0179TR-3000-MA-COM-datasheet-180616163.pdf?src-supplier=IHS; ComponentLink4URL: https://datasheet.octopart.com:443/MASWSS0179TR-3000-MA-COM-datasheet-14183393.pdf?src-supplier=iiiC; ComponentLink4Description: https://datasheet.octopart.com:443/MASWSS0179TR-3000-MA-COM-datasheet-14183393.pdf?src-supplier=iiiC; Supplier 1: DigiKey; Supplier Part Number 1: 3157-PSA-8A+CT-ND; Manufacturer Part Number 1: PSA-8A+; Stock 1: 2298; Pricing 1: 1=6,83, 20=4,07, 50=3,24, 100=2,69, 200=2,21, 500=1,93, 1000=1,68 (USD); RoHS: Compliant; Lifecycle Status: Production; Max Operating Temperature: 85°C; Min Operating Temperature: -40°C; Mount: Surface Mount; Number of Terminals: 6; REACH SVHC: Yes; ComponentLink5URL: https://datasheet.octopart.com:443/PSA-8A%2B-Mini-Circuits-datasheet-180702378.pdf?src-supplier=IHS; ComponentLink5Description: https://datasheet.octopart.com:443/PSA-8A%2B-Mini-Circuits-datasheet-180702378.pdf?src-supplier=IHS
footprint PSA-8A+_RF_PA_SC70 (Footprint not found)
pins: 1 GND, 2 GND, 3 RF IN (in), 4 GND, 5 GND, 6 RF OUT (io)

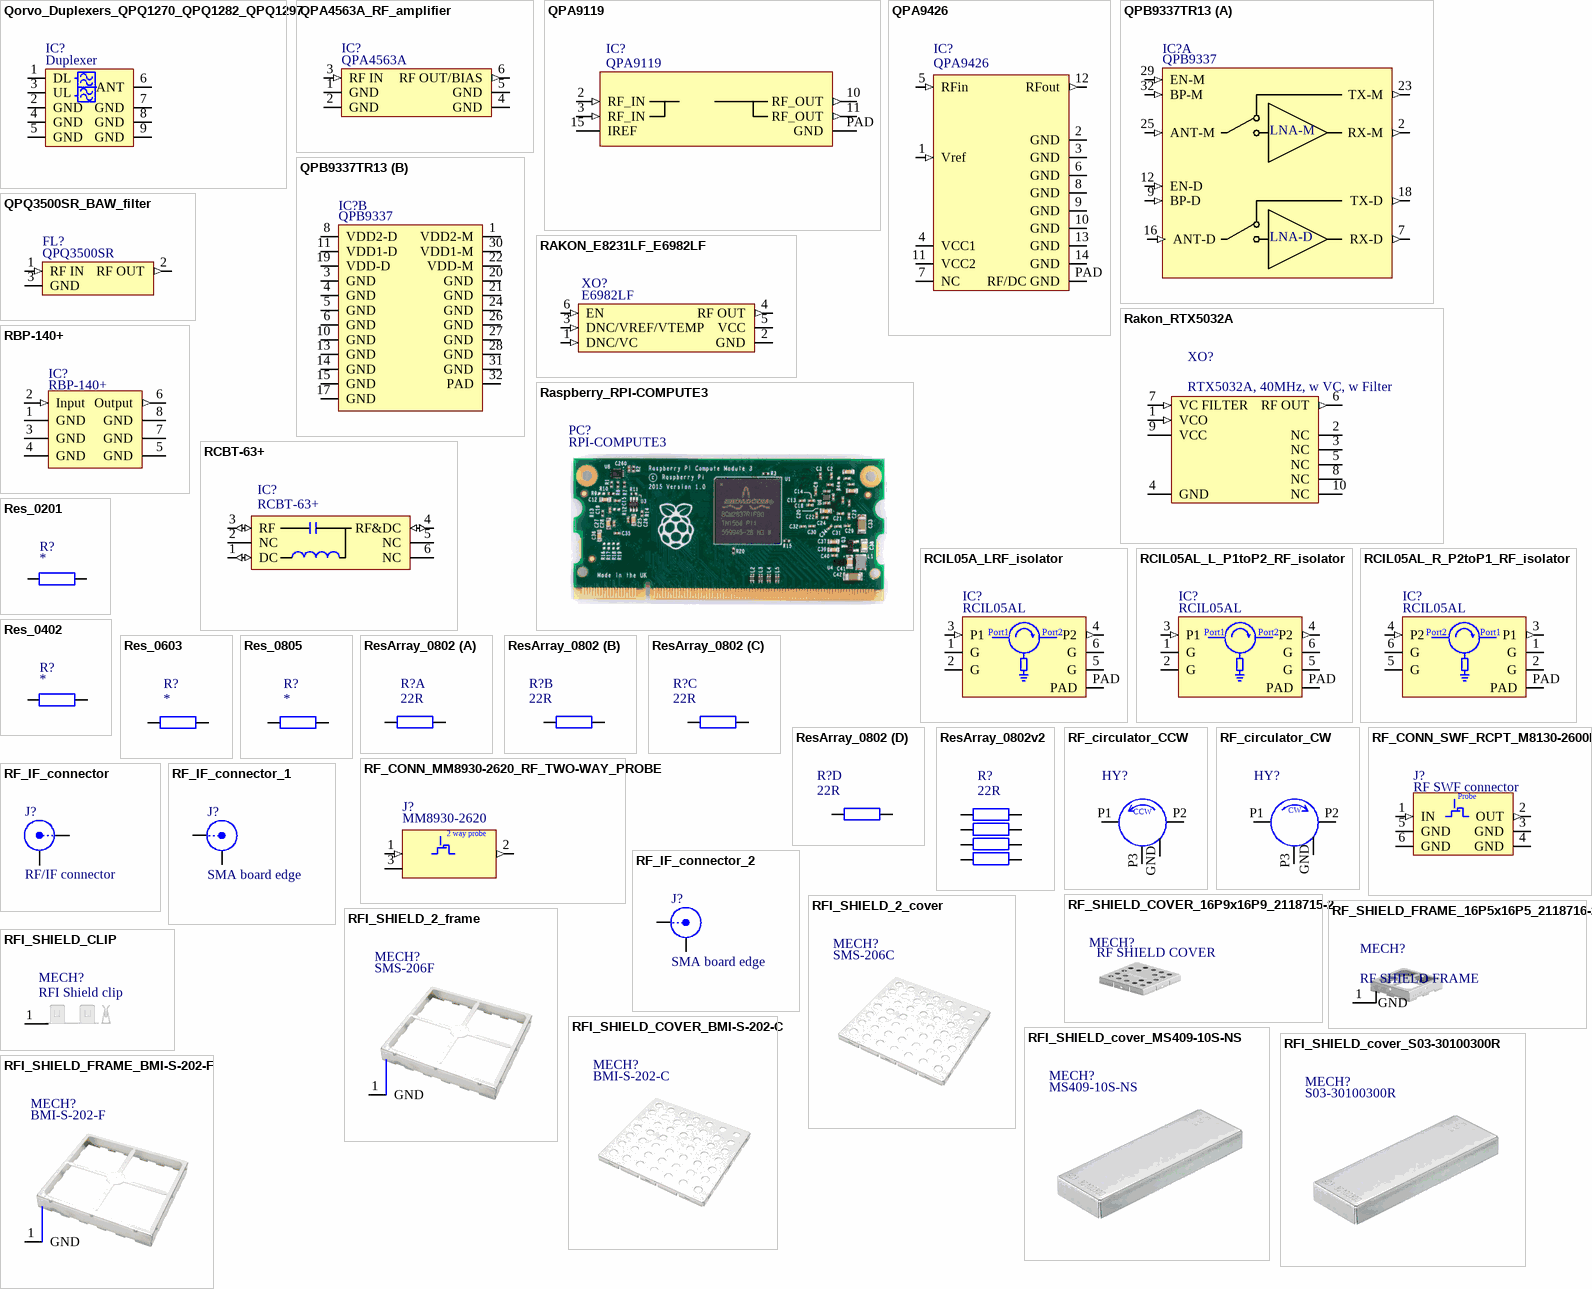
[diagram p64: symbols Qorvo_Duplexers_QPQ1270_QPQ1282_QPQ1297 to RFI_SHIELD_FRAME_BMI-S-202-F]

## Qorvo_Duplexers_QPQ1270_QPQ1282_QPQ1297
designator IC?, comment Duplexer
Manufacturer: Qorvo; Supplier 1: Qorvo; Manufacturer Part Number 1: *; Supplier Part Number 1: *
footprint Qorvo_QPQ_duplexer (QPQ1270, QPQ1282, QPQ1297 BAW duplexers)
pins: 1 DL (io), 2 GND, 3 UL (io), 4 GND, 5 GND, 6 ANT (io), 7 GND, 8 GND, 9 GND

## QPA4563A_RF_amplifier
designator IC?, comment QPA4563A
Part Description: RF Amplifier DC-3.5GHZ NF 2.5dB Gain 20.4dB; Manufacturer: Qorvo; Manufacturer Part Number 1: QPA4563ATR7; Supplier 1: Mouser; Supplier Part Number 1: 772-QPA4563ATR7; Stock 1: 25830; Pricing 1: 1=2,72000, 10=2,72000, 50=1,97000, 100=1,60000, 1000=0,89000, 10000=0,88700 (USD); RoHS: Yes; RoHS Compliant: Yes
footprint QPA4563ATR7_SOT363-6
pins: 1 GND, 2 GND, 3 RF IN (in), 4 GND, 5 GND, 6 RF OUT/BIAS (out)

## QPA9119
designator IC?
0.5W High Linearity Amplifier; Manufacturer: Qorvo; Part Description: 0.5W High Linearity Amplifier; Manufacturer Part Number 1: QPA9119; Supplier 1: Qorvo; Supplier Part Number 1: QPA9119
footprint QPA9119_QFN3X3-16 (Quad Flat No Lead, Plastic; 16 Terminals; Body 3 x 3 mm; Pitch 0.5 mm)
pins: 1 NC hidden, 2 RF_IN (in), 3 RF_IN (in), 4 NC hidden, 5 NC hidden, 6 NC hidden, 7 NC hidden, 8 NC hidden, 9 NC hidden, 10 RF_OUT (out), 11 RF_OUT (out), 12 NC hidden, 13 NC hidden, 14 NC hidden, 15 IREF (power), 16 NC hidden, PAD GND

## QPA9426
designator IC?
Manufacturer Part Number 1: QPA9426SR; Part Description: RF Amplifier 2.5-2.7GHz Gain 34dB PAE 14%; Supplier Part Number 1: 772-QPA9426SR; Supplier 1: Mouser
footprint QPA9426_SMD-14
pins: 1 Vref (in), 2 GND, 3 GND, 4 VCC1 (power), 5 RFin (in), 6 GND, 7 NC, 8 GND, 9 GND, 10 GND, 11 VCC2 (power), 12 RFout (out), 13 GND, 14 GND, PAD RF/DC GND

## QPB9337TR13
designator IC?, comment QPB9337
RF Front End 1.8-3.8 GHz Dual Channel Switch LNA Module; Manufacturer: Qorvo; Manufacturer Part Number 1: QPB9337TR13; Supplier 1: Mouser; Stock 1: 200; Pricing 1: 1 = 28,65000, 10 = 28,65000, 50 = 21,86000, 100 = 17,07000, 1000 = 17,07000, 10000 = 17,07000 (USD); Supplier Part Number 1: 772-QPB9337TR13; Part Description: RF Front End 1.8-3.8 GHz Dual Channel Switch LNA Module
footprint QPB9337_QFN32
part A pins: 2 RX-M (out), 7 RX-D (out), 9 BP-D (in), 12 EN-D (in), 16 ANT-D (in), 18 TX-D (out), 23 TX-M (out), 25 ANT-M (in), 29 EN-M (in), 32 BP-M (in)
part B pins: 1 VDD2-M (power), 3 GND, 4 GND, 5 GND, 6 GND, 8 VDD2-D (power), 10 GND, 11 VDD1-D (power), 13 GND, 14 GND, 15 GND, 17 GND, 19 VDD-D (power), 20 GND, 21 GND, 22 VDD-M (power), 24 GND, 26 GND, 27 GND, 28 GND, 30 VDD1-M (power), 31 GND, 32 PAD
part A text: LNA-M; LNA-D

## QPQ3500SR_BAW_filter
designator FL?, comment QPQ3500SR
Part Description: 3.5GHz Center Frequency Band Pass RF Filter (Radio Frequency) 200MHz Bandwidth 3.2dB 3-SMD, No Lead; Manufacturer: Qorvo; Supplier 1: DigiKey; Supplier Part Number 1: 2312-QPQ3500SRCT-ND; Manufacturer Part Number 1: QPQ3500SR; Stock 1: 1824; Pricing 1: 1=10,38, 25=8,15, 100=6,43 (USD)
footprint QPQ3500SR_BAW_filter
pins: 1 RF IN (in), 2 RF OUT (out), 3 GND

## RAKON_E8231LF_E6982LF
designator XO?, comment E6982LF
Part Description: 26MHz E6982LF Small Cell TCVCXO, w EN and VC, L x W: 5.0 x 3.2 mm nom., H: 2.1 mm max. (6 pad); Manufacturer: Rakon; Manufacturer Part Number 1: E6982LF; Supplier Part Number 1: E6982LF; Supplier 1: Rakon
footprint RAKON_E8231LF_E6982LF (RAKON RTX5032A 40MHz Filter enabled, with VC, 10pin 5mm x 3.2mm)
pins: 1 DNC/VC (in), 2 GND, 3 DNC/VREF/VTEMP (in), 4 RF OUT (out), 5 VCC (power), 6 EN (in)

## Rakon_RTX5032A
designator XO?, comment RTX5032A, 40MHz, w VC, w Filter
Part Description: RTX5032A 40MHz, High performance TCXO, With VC, Filter Enabled, 10-pin 5mm x 3.2 mm x 1.65 mm package; Manufacturer: Rakon; Manufacturer Part Number 1: RTX5032A; Supplier Part Number 1: RTX5032A; Supplier 1: RAKON
footprint RAKON_RTX5032A (RAKON RTX5032A 40MHz Filter enabled, without VC, 10pin)
pins: 1 VCO (in), 2 NC, 3 NC, 4 GND, 5 NC, 6 RF OUT (out), 7 VC FILTER (in), 8 NC, 9 VCC (power), 10 NC

## Raspberry_RPI-COMPUTE3
designator PC?, comment RPI-COMPUTE3  (mechanical)
Part Description: RPI-COMPUTE3 -  Development Kit, Raspberry Pi Compute Module 3, DDR2-SODIMM Mechanically Compatible SoM, 1GB RAM; Manufacturer: RASPBERRY-PI; Manufacturer Part Number 1: RPI-COMPUTE3; Supplier 1: Farnell; Supplier Part Number 1: 2675716

## RBP-140+
designator IC?
Manufacturer: Minicircuits; Part Description: 130 to 150 MHz 50R bandpass filter; Supplier 1: Minicircuits; Supplier Part Number 1: RBP-140+; Manufacturer Part Number 1: RBP-140+
footprint RBP-140+ (saw filter, case style GP731)
pins: 1 GND, 2 Input (in), 3 GND, 4 GND, 5 GND, 6 Output (out), 7 GND, 8 GND

## RCBT-63+
designator IC?
Surface mount bias-tee, wideband; Manufacturer_Name: Mini-Circuits; Manufacturer_Part_Number: RCBT-63+; Supplier Part Number 1: RCBT-63+; Supplier 1: Mini-Circuits; Part Description: Surface mount bias-tee, wideband
pins: 1 DC (io), 2 NC, 3 RF (io), 4 RF&DC (io), 5 NC, 6 NC

## RCIL05A_LRF_isolator
designator IC?, comment RCIL05AL
Manufacturer: RFC; Part Description: RF isolator for LTE band, SMD, 5mm x 5.15mm; Manufacturer Part Number 1: RCIL05AL; Supplier Part Number 1: *; Supplier 1: *
footprint RCIL05AL_RF_isolator
pins: 1 G, 2 G, 3 P1 (in), 4 P2 (out), 5 G, 6 G, PAD
text: Port1; Port2

## RCIL05AL_L_P1toP2_RF_isolator
designator IC?, comment RCIL05AL
Manufacturer: RFC; Part Description: RF isolator for LTE band, SMD, 5mm x 5.15mm; Manufacturer Part Number 1: RCIL05AL; Supplier Part Number 1: *; Supplier 1: *
footprint RCIL05AL_P1toP2_RF_isolator
pins: 1 G, 2 G, 3 P1 (in), 4 P2 (out), 5 G, 6 G, PAD
text: Port1; Port2

## RCIL05AL_R_P2toP1_RF_isolator
designator IC?, comment RCIL05AL
Manufacturer: RFC; Part Description: RF isolator for LTE band, SMD, 5mm x 5.15mm; Manufacturer Part Number 1: RCIL05AL; Supplier Part Number 1: *; Supplier 1: *
footprint RCIL05AL_P2toP1_RF_isolator
pins: 1 G, 2 G, 3 P1 (out), 4 P2 (in), 5 G, 6 G, PAD
text: Port2; Port1

## Res_0201
designator R?
value: *
pins: 1, 2

## Res_0402
designator R?
Value: *
footprint RES0402 (Chip Resistor, Body 1.0x0.5mm, EIA 0402, IPC Medium Density)
pins: 1, 2

## Res_0603
designator R?
Value: *
footprint RES0603 (Chip Resistor, Body 1.6x0.8mm, 0603, IPC Medium Density)
pins: 1, 2

## Res_0805
designator R?
Value: *
footprint RES0805 (Chip Resistor, Body 2.0x1.2mm, 0805, IPC Medium Density)
pins: 1, 2

## ResArray_0802
designator R?, comment 22R
Temperature Coefficient: ±200ppm/°C; Tolerance: ±5%; Supplier 1: Digi-Key; Supplier Part Number 1: YC124J-22TR-ND; Package / Case: 0804, Convex, Long Side Terminals; Value: 22R
footprint ChipResistorArray (Chip Array, Flat, 8-Leads, Pitch 0,60mm,  Body 2,05x1,05mm,  IPC Medium Density)
part A pins: 1, 2
part B pins: 3, 4
part C pins: 5, 6
part D pins: 7, 8

## ResArray_0802v2
designator R?, comment 22R
Manufacturer Part Number 1: YC124-JR-0722RL; Temperature Coefficient: ±200ppm/°C; Tolerance: ±5%; Supplier 1: Digi-Key; Supplier Part Number 1: YC124J-22TR-ND; Package / Case: 0804, Convex, Long Side Terminals; Value: 22R
footprint ChipResistorArray (Chip Array, Flat, 8-Leads, Pitch 0,60mm,  Body 2,05x1,05mm,  IPC Medium Density)
pins: 1, 2, 3, 4, 5, 6, 7, 8

## RF_circulator_CCW
designator HY?
footprint RF_circulator_CCW
pins: GND, P1 (power), P2 (power), P3 P1 (power)
text: CCW

## RF_circulator_CW
designator HY?
footprint RF_circulator_CW
pins: GND, P1 (power), P2 (power), P3 P1 (power)
text: CW

## RF_CONN_MM8930-2620_RF_TWO-WAY_PROBE
designator J?, comment MM8930-2620
Part Description: SWH Connector Receptacle, Male Pin 50 Ohms Surface Mount Solder; Manufacturer: Murata; Manufacturer Part Number 1: MM8930-2620RJ4; Frequency: 6GHz; Impedance: 50Ω; Insertion Loss (dB): 0.2dB; Number of Contacts: 2; Voltage Rating: 30V; Supplier 1: DigiKey; Supplier Part Number 1: 490-MM8930-2620RJ4CT-ND; Stock 1: 18485; Pricing 1: 1=0,28, 10=0,239, 25=0,2244, 50=0,2136, 100=0,2034, 250=0,1906, 500=0,1815, 1000=0,17282 (USD); RoHS: Compliant; Contact Gender: Female; Contact Material: Gold; Height: 900µm; Lifecycle Status: Production; Max Operating Temperature: 85°C; Min Operating Temperature: -40°C; REACH SVHC: No; ComponentLink1URL: https://datasheet.octopart.com:443/MM8930-2620RJ4-Murata-datasheet-140462597.pdf?src-supplier=Upverter; ComponentLink1Description: https://datasheet.octopart.com:443/MM8930-2620RJ4-Murata-datasheet-140462597.pdf?src-supplier=Upverter; ComponentLink2URL: https://datasheet.octopart.com:443/MM8930-2620RJ4-Murata-datasheet-180811140.pdf?src-supplier=IHS; ComponentLink2Description: https://datasheet.octopart.com:443/MM8930-2620RJ4-Murata-datasheet-180811140.pdf?src-supplier=IHS; ComponentLink3URL: http://sigma.octopart.com:80/reach_statement/Murata-company-16.pdf?src-supplier=Compliance+Statements; ComponentLink3Description: http://sigma.octopart.com:80/reach_statement/Murata-company-16.pdf?src-supplier=Compliance+Statements
footprint RF_CONN_MM8930-2620_RF_TWO-WAY_PROBE
pins: 1 IN (in), 2 OUT (out), 3 GND
text: 2 way probe

## RF_CONN_SWF_RCPT_M8130-2600RA2
designator J?, comment RF SWF connector
Manufacturer: Murata; Manufacturer Part Number 1: MM8130-2600RA2; Part Description: SWF Connector Receptacle, Female Socket 50 Ohms Surface Mount Solder; Connector Type: Socket; Frequency: 6GHz; Gender: Female; Impedance: 50Ω; Insertion Loss (dB): 0.2dB; Insulation Resistance: 500MΩ; Number of Contacts: 2; Voltage Rating: 250V; Supplier 1: DigiKey; Supplier Part Number 1: 490-4981-1-ND; Stock 1: 27841; Pricing 1: 1=0,31, 10=0,259, 25=0,2428, 50=0,2314, 100=0,2202, 250=0,2064, 500=0,19654, 1000=0,18715 (USD); RoHS: Compliant; Case/Package: SMD/SMT; Contact Gender: Female; Contact Material: Gold; Depth: 2.5mm; Fastening Type: Pull, Push; Height: 1.5mm; Housing Color: Gold; Lead Free: Lead Free; Length: 2.5mm; Lifecycle Status: Production; Max Frequency: 6GHz; Max Operating Temperature: 85°C; Min Operating Temperature: -40°C; Mount: Surface Mount; Number of Pins: 1; Orientation: Vertical; Radiation Hardening: No; Termination: Solder; ComponentLink1URL: https://datasheet.octopart.com:443/MM8130-2600RA2-Murata-datasheet-140462597.pdf?src-supplier=Upverter; ComponentLink1Description: https://datasheet.octopart.com:443/MM8130-2600RA2-Murata-datasheet-140462597.pdf?src-supplier=Upverter; ComponentLink2URL: https://datasheet.octopart.com:443/MM8130-2600RA2-Murata-datasheet-180811137.pdf?src-supplier=IHS; ComponentLink2Description: https://datasheet.octopart.com:443/MM8130-2600RA2-Murata-datasheet-180811137.pdf?src-supplier=IHS; ComponentLink3URL: https://datasheet.octopart.com:443/MM8130-2600RA2-Murata-datasheet-141245191.pdf?src-supplier=Future+Electronics; ComponentLink3Description: https://datasheet.octopart.com:443/MM8130-2600RA2-Murata-datasheet-141245191.pdf?src-supplier=Future+Electronics; ComponentLink4URL: https://datasheet.octopart.com:443/MM8130-2600RA2-Murata-datasheet-44780756.pdf?src-supplier=Future+Electronics; ComponentLink4Description: https://datasheet.octopart.com:443/MM8130-2600RA2-Murata-datasheet-44780756.pdf?src-supplier=Future+Electronics; ComponentLink5URL: https://datasheet.octopart.com:443/MM8130-2600RA2-Murata-datasheet-12518420.pdf?src-supplier=Future+Electronics; ComponentLink5Description: https://datasheet.octopart.com:443/MM8130-2600RA2-Murata-datasheet-12518420.pdf?src-supplier=Future+Electronics; ComponentLink6URL: https://datasheet.octopart.com:443/MM8130-2600RA2-Murata-datasheet-535672.pdf?src-supplier=Future+Electronics; ComponentLink6Description: https://datasheet.octopart.com:443/MM8130-2600RA2-Murata-datasheet-535672.pdf?src-supplier=Future+Electronics; ComponentLink7URL: https://datasheet.octopart.com:443/MM8130-2600RA2-Murata-datasheet-11970644.pdf?src-supplier=Arrow+Electronics; ComponentLink7Description: https://datasheet.octopart.com:443/MM8130-2600RA2-Murata-datasheet-11970644.pdf?src-supplier=Arrow+Electronics; ComponentLink8URL: http://sigma.octopart.com:80/reach_statement/Murata-company-16.pdf?src-supplier=Compliance+Statements; ComponentLink8Description: http://sigma.octopart.com:80/reach_statement/Murata-company-16.pdf?src-supplier=Compliance+Statements
footprint RF_CONN_SWF_RCPT_M8130-2600RA2 (Footprint not found)
pins: 1 IN (in), 2 OUT (out), 3 GND, 4 GND, 5 GND, 6 GND
text: Probe

## RF_IF_connector
designator J?, comment RF/IF connector
footprint MMCX_conn
pins: 1 X, 2 Y

## RF_IF_connector_1
designator J?, comment SMA board edge
CONN SMA JACK STR 50OHM EDGE MNT; Manufacturer: RF Solutions; Manufacturer Part Number 1: CON-SMA-EDGE-S; Part Description: SMA Connector Jack, Female Socket Board Edge, End Launch Solder; Connector Type: Jack, Female Socket; Contact Termination: Solder; Supplier 1: Digi-Key; Supplier Part Number 1: CON-SMA-EDGE-S-ND; RoHS: RoHS Compliant; Category: Connectors, Interconnects; Stock 1: 1751; Pricing 1: 1=2.1 (USD); Packaging: -; Part Status: Active; Connector Style: SMA; Shield Termination: Solder; Impedance: -; Mounting Type: Board Edge, End Launch; Mounting Feature: -; Cable Group: -; Fastening Type: Threaded; Frequency - Max: -; Features: -; Housing Color: -; Ingress Protection: -; Includes: -; Body Material: -; Body Finish: -; Center Contact Plating: -; Dielectric Material: -; Operating Temperature: -; Center Contact Material: -; Voltage Rating: -; Mating Cycles: -; Insertion Loss: -; ComponentLink1URL: http://media.digikey.com/pdf/Data%20Sheets/RF%20Solutions%20PDFs/CON-SMA-EDGE.pdf; ComponentLink1Description: http://media.digikey.com/pdf/Data%20Sheets/RF%20Solutions%20PDFs/CON-SMA-EDGE.pdf
footprint MMCX_UFL_conn_u
footprint SMA_connector_board_edge_SM
footprint MMCX_UFL_conn_V4_M
pins: 1 X, 2 Y

## RF_IF_connector_2
designator J?, comment SMA board edge
CONN SMA JACK STR 50OHM EDGE MNT; Manufacturer: RF Solutions; Manufacturer Part Number 1: CON-SMA-EDGE-S; Part Description: SMA Connector Jack, Female Socket Board Edge, End Launch Solder; Connector Type: Jack, Female Socket; Contact Termination: Solder; Supplier 1: Digi-Key; Supplier Part Number 1: CON-SMA-EDGE-S-ND; RoHS: RoHS Compliant; Category: Connectors, Interconnects; Stock 1: 1751; Pricing 1: 1=2.1 (USD); Packaging: -; Part Status: Active; Connector Style: SMA; Shield Termination: Solder; Impedance: -; Mounting Type: Board Edge, End Launch; Mounting Feature: -; Cable Group: -; Fastening Type: Threaded; Frequency - Max: -; Features: -; Housing Color: -; Ingress Protection: -; Includes: -; Body Material: -; Body Finish: -; Center Contact Plating: -; Dielectric Material: -; Operating Temperature: -; Center Contact Material: -; Voltage Rating: -; Mating Cycles: -; Insertion Loss: -; ComponentLink1URL: http://media.digikey.com/pdf/Data%20Sheets/RF%20Solutions%20PDFs/CON-SMA-EDGE.pdf; ComponentLink1Description: http://media.digikey.com/pdf/Data%20Sheets/RF%20Solutions%20PDFs/CON-SMA-EDGE.pdf
footprint MMCX_UFL_conn_u
footprint SMA_connector_board_edge_SM
footprint MMCX_UFL_conn_V4_M
pins: 1 X, 2 Y

## RF_SHIELD_COVER_16P9x16P9_2118715-2
designator MECH?, comment RF SHIELD COVER
Part Description: RF Shield Cover 0.665" (16.90mm) X 0.665" (16.90mm) Vented Surface Mount; Manufacturer: TE Connectivity; Manufacturer Part Number 1: 2118715-2; ComponentLink1URL: https://www.te.com/commerce/DocumentDelivery/DDEController?Action=srchrtrv&DocNm=2118716&DocType=Customer+Drawing&DocLang=English&src-supplier=Digi-Key; ComponentLink1Description: https://www.te.com/commerce/DocumentDelivery/DDEController?Action=srchrtrv&DocNm=2118716&DocType=Customer+Drawing&DocLang=English&src-supplier=Digi-Key; Supplier 1: Digi-Key; Supplier Part Number 1: A126120-ND; Stock 1: 58094; Pricing 1: 1=1,44000, 10=1,28900, 25=1,22400, 100=1,00530, 250=0,93972, 500=0,83046, 1000=0,65562, 2500=0,61191, 5000=0,58132 (USD); RoHS: Yes; ComponentLink2URL: https://www.te.com/commerce/DocumentDelivery/DDEController?Action=srchrtrv&DocNm=2118715&DocType=Customer+Drawing&DocLang=English&src-supplier=Digi-Key; ComponentLink2Description: https://www.te.com/commerce/DocumentDelivery/DDEController?Action=srchrtrv&DocNm=2118715&DocType=Customer+Drawing&DocLang=English&src-supplier=Digi-Key
footprint RF_SHIELD_COVER_16Px916P9_2118715-2

## RF_SHIELD_FRAME_16P5x16P5_2118716-2
designator MECH?, comment RF SHIELD FRAME
Part Description: RF Shield Frame 0.650" (16.50mm) X 0.650" (16.50mm) Surface Mount; Manufacturer: TE Connectivity; Manufacturer Part Number 1: 2118716-2; Supplier 1: Digi-Key; Supplier Part Number 1: A126152CT-ND; Stock 1: 26553; Pricing 1: 1=0,93000, 10=0,81600, 25=0,76680, 100=0,62570, 250=0,58120 (USD); RoHS: Yes; ComponentLink1URL: https://www.te.com/commerce/DocumentDelivery/DDEController?Action=srchrtrv&DocNm=2118716&DocType=Customer+Drawing&DocLang=English&src-supplier=Digi-Key; ComponentLink1Description: https://www.te.com/commerce/DocumentDelivery/DDEController?Action=srchrtrv&DocNm=2118716&DocType=Customer+Drawing&DocLang=English&src-supplier=Digi-Key
footprint RF_SHIELD_FRAME_16P5x16P5_2118716-2 (Footprint not found)
pins: 1 GND

## RFI_SHIELD_2_cover
designator MECH?, comment SMS-206C  (mechanical)
Manufacturer: Leader Tech Inc.; Part Description: RF Shield Cover 1.348" (34.24mm) X 1.472" (37.39mm) Vented Surface Mount; Ventilation: Vented; Supplier 1: Digi-Key; Manufacturer Part Number: SMS-206C; RoHS: RoHS Compliant; Category: RF/IF and RFID; Stock 1: 1529; Pricing 1: 1=0.8, 10=0.703, 25=0.6228, 100=0.5426, 250=0.47224, 500=0.4019, 1000=0.32152, 2500=0.29138, 5000=0.27128 (USD); Packaging: Bulk; Part Status: Active; Type: Cover; Height - Overall: 0.079" (2.01mm); Length - Overall: 1.472" (37.39mm); Width - Overall: 1.348" (34.24mm); Mounting Type: Surface Mount; ComponentLink1URL: https://www.leadertechinc.com/assets/files/EngineeringDrawings/SMS-206.PDF; ComponentLink1Description: https://www.leadertechinc.com/assets/files/EngineeringDrawings/SMS-206.PDF; Supplier Part Number 1: 1798-1188-ND

## RFI_SHIELD_2_frame
designator MECH?, comment SMS-206F
Part Description: RF Shield Frame 1.326" (33.68mm) X 1.450" (36.83mm) Surface Mount; Manufacturer: Leader Tech Inc.; Supplier 1: Digi-Key; Manufacturer Part Number: SMS-206F; RoHS: RoHS Compliant; Category: RF/IF and RFID; Stock 1: 898; Pricing 1: 1=2.97, 10=2.682, 25=2.3948, 100=2.1553 (USD); Packaging: Cut Tape (CT); Part Status: Active; Type: Frame; Height - Overall: 0.200" (5.08mm); Length - Overall: 1.450" (36.83mm); Width - Overall: 1.326" (33.68mm); Ventilation: -; Mounting Type: Surface Mount; ComponentLink1URL: https://www.leadertechinc.com/assets/files/EngineeringDrawings/SMS-206.PDF; ComponentLink1Description: https://www.leadertechinc.com/assets/files/EngineeringDrawings/SMS-206.PDF; Supplier Part Number 1: 1798-1189-1-ND
footprint SHIELD_SMS-206F (RF Shield  Frame+Cover 1.348" (34.24mm) X 1.472" (37.39mm) Vented Surface Mount)
pins: 1 GND